# EAGLE library part ATMEGA328P (library Lib_Autobotz_2023)
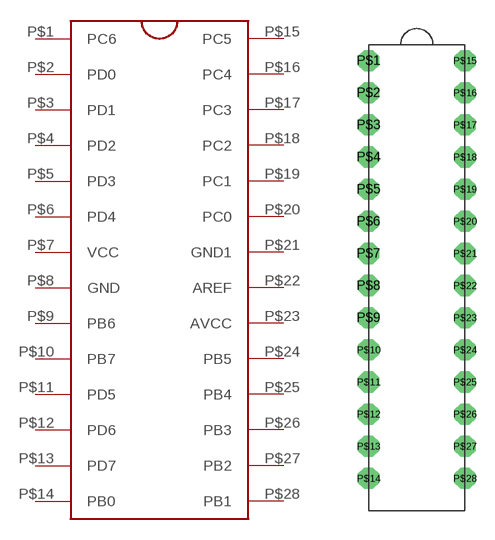
[diagram p1: symbol with the pads of ATMEGA328P; footprint ATMEGA328P]

Designator prefix -

## ATMEGA328P  [ATMEGA328P]
P$1  PC6
P$2  PD0
P$3  PD1
P$4  PD2
P$5  PD3
P$6  PD4
P$7  VCC
P$8  GND
P$9  PB6
P$10  PB7
P$11  PD5
P$12  PD6
P$13  PD7
P$14  PB0
P$15  PC5
P$16  PC4
P$17  PC3
P$18  PC2
P$19  PC1
P$20  PC0
P$21  GND1
P$22  AREF
P$23  AVCC
P$24  PB5
P$25  PB4
P$26  PB3
P$27  PB2
P$28  PB1

## Footprint ATMEGA328P (pad centres in mm)
drill 0.6 pad 1.676 octagon: P$1 -3.81,15.24; P$2 -3.81,12.7; P$3 -3.81,10.16; P$4 -3.81,7.62; P$5 -3.81,5.08; P$6 -3.81,2.54; P$7 -3.81,0; P$8 -3.81,-2.54; P$9 -3.81,-5.08; P$10 -3.81,-7.62; P$11 -3.81,-10.16; P$12 -3.81,-12.7; P$13 -3.81,-15.24; P$14 -3.81,-17.78; P$15 3.81,15.24; P$16 3.81,12.7; P$17 3.81,10.16; P$18 3.81,7.62; P$19 3.81,5.08; P$20 3.81,2.54; P$21 3.81,0; P$22 3.81,-2.54; P$23 3.81,-5.08; P$24 3.81,-7.62; P$25 3.81,-10.16; P$26 3.81,-12.7; P$27 3.81,-15.24; P$28 3.81,-17.78